# Altium footprint library IPC-7355 QFP_Shrink_Sq_50P_Side_M.PcbLib: 26 footprints (part 3 of 3)
Each footprint in its own frame and in the unit in brackets; x right, y up, seen from the top. Pads: shape width x height; smd on the part's side, far side on the other; paste and mask are expansions set on the pad; w line width, h text height; cw(c..) or ccw(c..) is an arc to the next point about the centre after c.
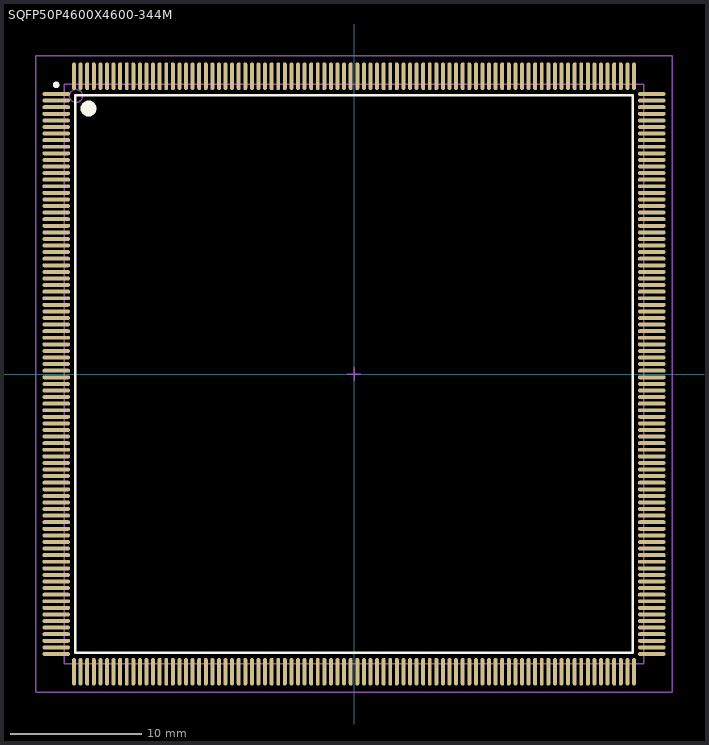
[diagram p2: the footprint, top view; thin cyan lines are the x and y axes]

## SQFP50P4600X4600-344M [mm] "Shrink QFP, 344-Leads, Body 44x44mm, Pitch 0.5mm, IPC Low Density"
height 4.2
pads (344):
  oval 2.1x0.3 smd: 1(-22.6,21.25) 2(-22.6,20.75) 3(-22.6,20.25) 4(-22.6,19.75) 5(-22.6,19.25) 6(-22.6,18.75) 7(-22.6,18.25) 8(-22.6,17.75) 9(-22.6,17.25) 10(-22.6,16.75) 11(-22.6,16.25) 12(-22.6,15.75) 13(-22.6,15.25) 14(-22.6,14.75) 15(-22.6,14.25) 16(-22.6,13.75) 17(-22.6,13.25) 18(-22.6,12.75) 19(-22.6,12.25) 20(-22.6,11.75) 21(-22.6,11.25) 22(-22.6,10.75) 23(-22.6,10.25) 24(-22.6,9.75) 25(-22.6,9.25) 26(-22.6,8.75) 27(-22.6,8.25) 28(-22.6,7.75) 29(-22.6,7.25) 30(-22.6,6.75) 31(-22.6,6.25) 32(-22.6,5.75) 33(-22.6,5.25) 34(-22.6,4.75) 35(-22.6,4.25) 36(-22.6,3.75) 37(-22.6,3.25) 38(-22.6,2.75) 39(-22.6,2.25) 40(-22.6,1.75) 41(-22.6,1.25) 42(-22.6,0.75) 43(-22.6,0.25) 44(-22.6,-0.25) 45(-22.6,-0.75) 46(-22.6,-1.25) 47(-22.6,-1.75) 48(-22.6,-2.25) 49(-22.6,-2.75) 50(-22.6,-3.25) 51(-22.6,-3.75) 52(-22.6,-4.25) 53(-22.6,-4.75) 54(-22.6,-5.25) 55(-22.6,-5.75) 56(-22.6,-6.25) 57(-22.6,-6.75) 58(-22.6,-7.25) 59(-22.6,-7.75) 60(-22.6,-8.25) 61(-22.6,-8.75) 62(-22.6,-9.25) 63(-22.6,-9.75) 64(-22.6,-10.25) 65(-22.6,-10.75) 66(-22.6,-11.25) 67(-22.6,-11.75) 68(-22.6,-12.25) 69(-22.6,-12.75) 70(-22.6,-13.25) 71(-22.6,-13.75) 72(-22.6,-14.25) 73(-22.6,-14.75) 74(-22.6,-15.25) 75(-22.6,-15.75) 76(-22.6,-16.25) 77(-22.6,-16.75) 78(-22.6,-17.25) 79(-22.6,-17.75) 80(-22.6,-18.25) 81(-22.6,-18.75) 82(-22.6,-19.25) 83(-22.6,-19.75) 84(-22.6,-20.25) 85(-22.6,-20.75) 86(-22.6,-21.25) 173(22.6,-21.25) 174(22.6,-20.75) 175(22.6,-20.25) 176(22.6,-19.75) 177(22.6,-19.25) 178(22.6,-18.75) 179(22.6,-18.25) 180(22.6,-17.75) 181(22.6,-17.25) 182(22.6,-16.75) 183(22.6,-16.25) 184(22.6,-15.75) 185(22.6,-15.25) 186(22.6,-14.75) 187(22.6,-14.25) 188(22.6,-13.75) 189(22.6,-13.25) 190(22.6,-12.75) 191(22.6,-12.25) 192(22.6,-11.75) 193(22.6,-11.25) 194(22.6,-10.75) 195(22.6,-10.25) 196(22.6,-9.75) 197(22.6,-9.25) 198(22.6,-8.75) 199(22.6,-8.25) 200(22.6,-7.75) 201(22.6,-7.25) 202(22.6,-6.75) 203(22.6,-6.25) 204(22.6,-5.75) 205(22.6,-5.25) 206(22.6,-4.75) 207(22.6,-4.25) 208(22.6,-3.75) 209(22.6,-3.25) 210(22.6,-2.75) 211(22.6,-2.25) 212(22.6,-1.75) 213(22.6,-1.25) 214(22.6,-0.75) 215(22.6,-0.25) 216(22.6,0.25) 217(22.6,0.75) 218(22.6,1.25) 219(22.6,1.75) 220(22.6,2.25) 221(22.6,2.75) 222(22.6,3.25) 223(22.6,3.75) 224(22.6,4.25) 225(22.6,4.75) 226(22.6,5.25) 227(22.6,5.75) 228(22.6,6.25) 229(22.6,6.75) 230(22.6,7.25) 231(22.6,7.75) 232(22.6,8.25) 233(22.6,8.75) 234(22.6,9.25) 235(22.6,9.75) 236(22.6,10.25) 237(22.6,10.75) 238(22.6,11.25) 239(22.6,11.75) 240(22.6,12.25) 241(22.6,12.75) 242(22.6,13.25) 243(22.6,13.75) 244(22.6,14.25) 245(22.6,14.75) 246(22.6,15.25) 247(22.6,15.75) 248(22.6,16.25) 249(22.6,16.75) 250(22.6,17.25) 251(22.6,17.75) 252(22.6,18.25) 253(22.6,18.75) 254(22.6,19.25) 255(22.6,19.75) 256(22.6,20.25) 257(22.6,20.75) 258(22.6,21.25)
  oval 0.3x2.1 smd: 87(-21.25,-22.6) 88(-20.75,-22.6) 89(-20.25,-22.6) 90(-19.75,-22.6) 91(-19.25,-22.6) 92(-18.75,-22.6) 93(-18.25,-22.6) 94(-17.75,-22.6) 95(-17.25,-22.6) 96(-16.75,-22.6) 97(-16.25,-22.6) 98(-15.75,-22.6) 99(-15.25,-22.6) 100(-14.75,-22.6) 101(-14.25,-22.6) 102(-13.75,-22.6) 103(-13.25,-22.6) 104(-12.75,-22.6) 105(-12.25,-22.6) 106(-11.75,-22.6) 107(-11.25,-22.6) 108(-10.75,-22.6) 109(-10.25,-22.6) 110(-9.75,-22.6) 111(-9.25,-22.6) 112(-8.75,-22.6) 113(-8.25,-22.6) 114(-7.75,-22.6) 115(-7.25,-22.6) 116(-6.75,-22.6) 117(-6.25,-22.6) 118(-5.75,-22.6) 119(-5.25,-22.6) 120(-4.75,-22.6) 121(-4.25,-22.6) 122(-3.75,-22.6) 123(-3.25,-22.6) 124(-2.75,-22.6) 125(-2.25,-22.6) 126(-1.75,-22.6) 127(-1.25,-22.6) 128(-0.75,-22.6) 129(-0.25,-22.6) 130(0.25,-22.6) 131(0.75,-22.6) 132(1.25,-22.6) 133(1.75,-22.6) 134(2.25,-22.6) 135(2.75,-22.6) 136(3.25,-22.6) 137(3.75,-22.6) 138(4.25,-22.6) 139(4.75,-22.6) 140(5.25,-22.6) 141(5.75,-22.6) 142(6.25,-22.6) 143(6.75,-22.6) 144(7.25,-22.6) 145(7.75,-22.6) 146(8.25,-22.6) 147(8.75,-22.6) 148(9.25,-22.6) 149(9.75,-22.6) 150(10.25,-22.6) 151(10.75,-22.6) 152(11.25,-22.6) 153(11.75,-22.6) 154(12.25,-22.6) 155(12.75,-22.6) 156(13.25,-22.6) 157(13.75,-22.6) 158(14.25,-22.6) 159(14.75,-22.6) 160(15.25,-22.6) 161(15.75,-22.6) 162(16.25,-22.6) 163(16.75,-22.6) 164(17.25,-22.6) 165(17.75,-22.6) 166(18.25,-22.6) 167(18.75,-22.6) 168(19.25,-22.6) 169(19.75,-22.6) 170(20.25,-22.6) 171(20.75,-22.6) 172(21.25,-22.6) 259(21.25,22.6) 260(20.75,22.6) 261(20.25,22.6) 262(19.75,22.6) 263(19.25,22.6) 264(18.75,22.6) 265(18.25,22.6) 266(17.75,22.6) 267(17.25,22.6) 268(16.75,22.6) 269(16.25,22.6) 270(15.75,22.6) 271(15.25,22.6) 272(14.75,22.6) 273(14.25,22.6) 274(13.75,22.6) 275(13.25,22.6) 276(12.75,22.6) 277(12.25,22.6) 278(11.75,22.6) 279(11.25,22.6) 280(10.75,22.6) 281(10.25,22.6) 282(9.75,22.6) 283(9.25,22.6) 284(8.75,22.6) 285(8.25,22.6) 286(7.75,22.6) 287(7.25,22.6) 288(6.75,22.6) 289(6.25,22.6) 290(5.75,22.6) 291(5.25,22.6) 292(4.75,22.6) 293(4.25,22.6) 294(3.75,22.6) 295(3.25,22.6) 296(2.75,22.6) 297(2.25,22.6) 298(1.75,22.6) 299(1.25,22.6) 300(0.75,22.6) 301(0.25,22.6) 302(-0.25,22.6) 303(-0.75,22.6) 304(-1.25,22.6) 305(-1.75,22.6) 306(-2.25,22.6) 307(-2.75,22.6) 308(-3.25,22.6) 309(-3.75,22.6) 310(-4.25,22.6) 311(-4.75,22.6) 312(-5.25,22.6) 313(-5.75,22.6) 314(-6.25,22.6) 315(-6.75,22.6) 316(-7.25,22.6) 317(-7.75,22.6) 318(-8.25,22.6) 319(-8.75,22.6) 320(-9.25,22.6) 321(-9.75,22.6) 322(-10.25,22.6) 323(-10.75,22.6) 324(-11.25,22.6) 325(-11.75,22.6) 326(-12.25,22.6) 327(-12.75,22.6) 328(-13.25,22.6) 329(-13.75,22.6) 330(-14.25,22.6) 331(-14.75,22.6) 332(-15.25,22.6) 333(-15.75,22.6) 334(-16.25,22.6) 335(-16.75,22.6) 336(-17.25,22.6) 337(-17.75,22.6) 338(-18.25,22.6) 339(-18.75,22.6) 340(-19.25,22.6) 341(-19.75,22.6) 342(-20.25,22.6) 343(-20.75,22.6) 344(-21.25,22.6)
Top Overlay:
  circle w0.6: c-20.15,20.15 r0.3
  circle w0.25: c-22.6,21.95 r0.125
  lines w0.2: -21.15,-21.15 21.15,-21.15 21.15,21.15 -21.15,21.15 -21.15,-21.15
Mechanical 13:
  circle w0.1: c-21.1,21.1 r0.5
  lines w0.1: -22,-22 22,-22 22,22 -22,22 -22,-22
Mechanical 15:
  lines w0.1: -0.5,0 0.5,0 ; 0,-0.5 0,0.5 ; -24.15,-24.15 24.15,-24.15 24.15,24.15 -24.15,24.15 -24.15,-24.15
3D body: height 4.2, standoff 0, extent -22,-22 22,22